# Altium schematic symbol library pwr_reg.SchLib: 53 symbols
Pins are listed as number, name and electrical type; pins without a type are passive.

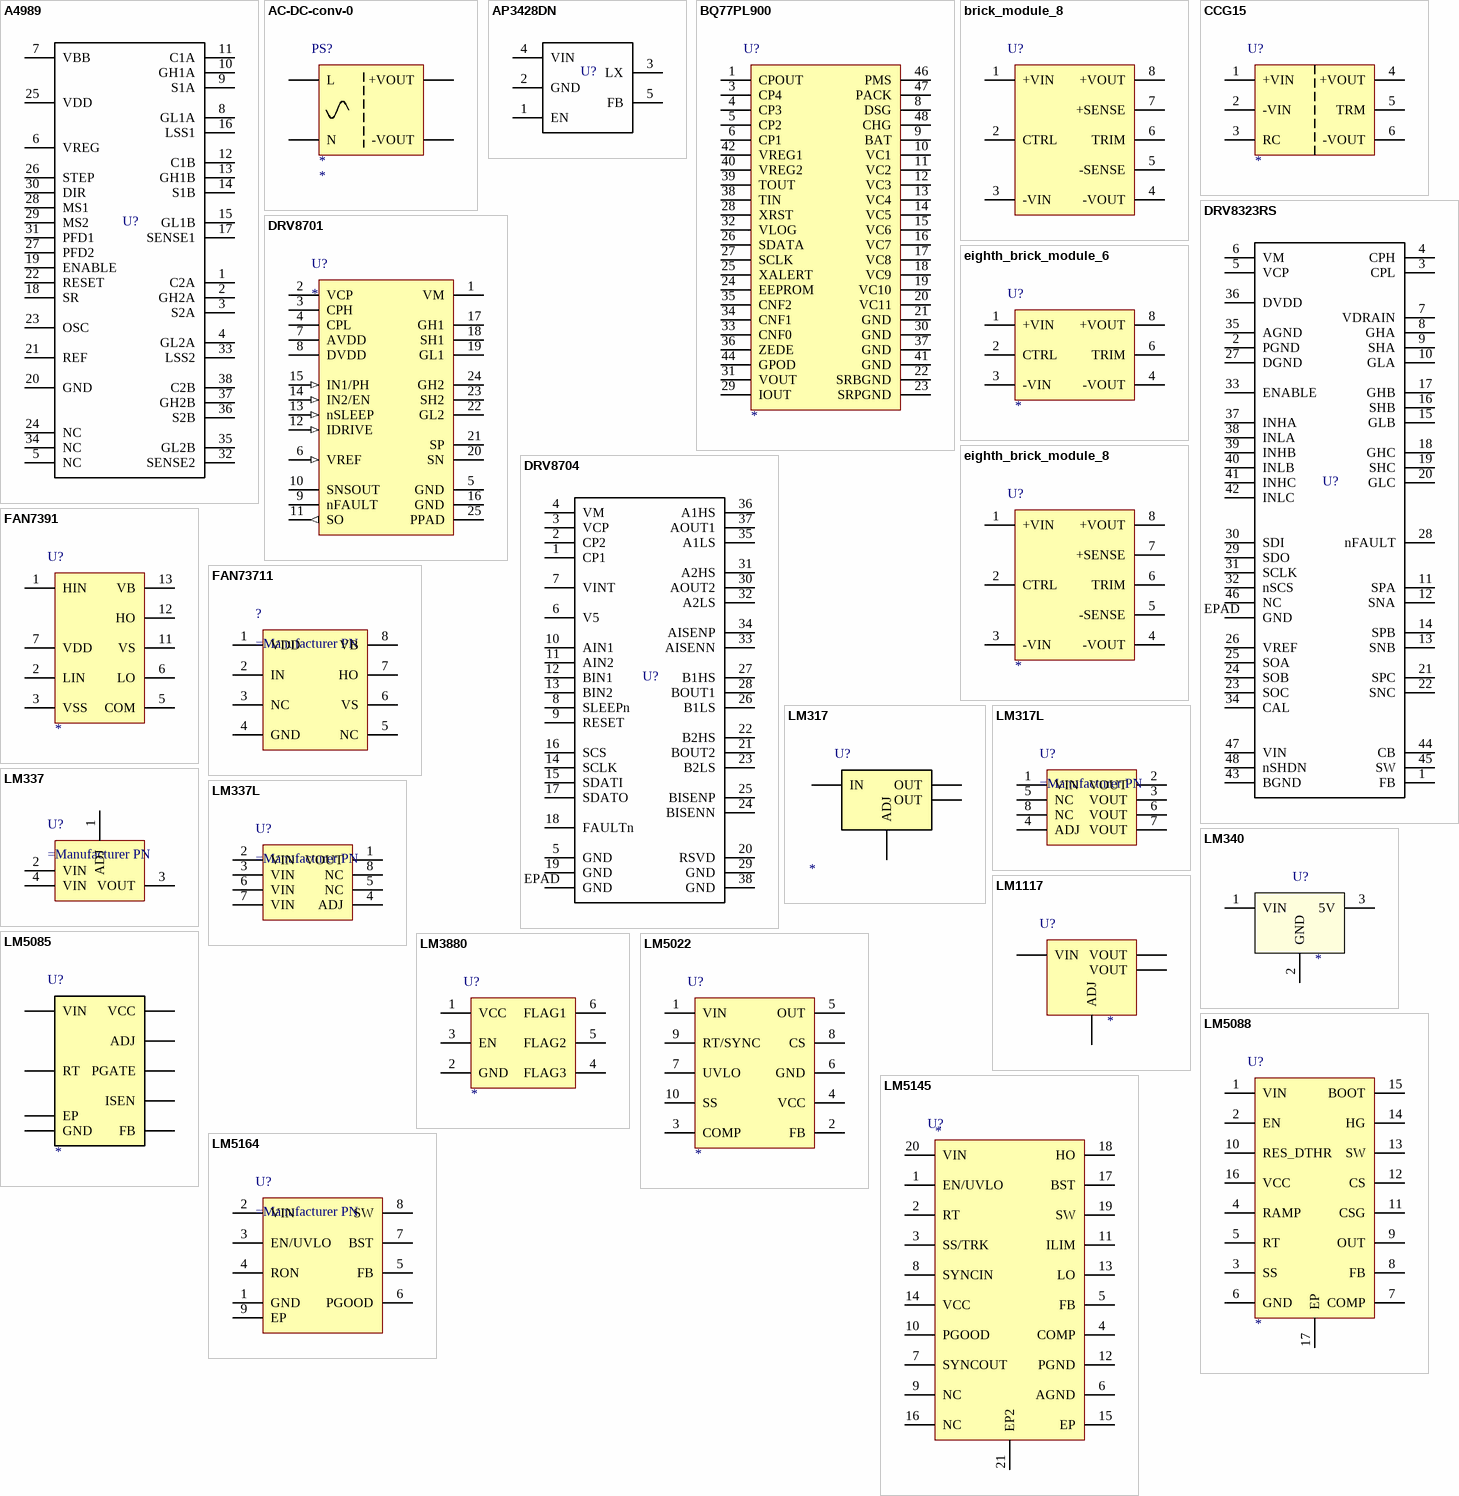
[diagram p0: symbols A4989 to LM5164]

## A4989
designator U?  (value not drawn)
Stepper Driver, A4989
pins: 1 C2A, 2 GH2A, 3 S2A, 4 GL2A, 5 NC, 6 VREG, 7 VBB, 8 GL1A, 9 S1A, 10 GH1A, 11 C1A, 12 C1B, 13 GH1B, 14 S1B, 15 GL1B, 16 LSS1, 17 SENSE1, 18 SR, 19 ENABLE, 20 GND, 21 REF, 22 RESET, 23 OSC, 24 NC, 25 VDD, 26 STEP, 27 PFD2, 28 MS1, 29 MS2, 30 DIR, 31 PFD1, 32 SENSE2, 33 LSS2, 34 NC, 35 GL2B, 36 S2B, 37 GH2B, 38 C2B

## AC-DC-conv-0
designator PS?
AC/DC Converter; Voltage Range Out: *; Manufacturer PN: *
pins: 1 N, 2 L, 3 +VOUT, 4 -VOUT

## AP3428DN
designator U?  (value not drawn)
REG, SW Buck Adj, 1A, 1.5MHz
footprint u-dfn2020-6
pins: 1 EN, 2 GND, 3 LX, 4 VIN, 5 FB

## BQ77PL900
designator U?
5-10 cell Li-Ion Battery Manager; Manufacturer PN: *
pins: 1 CPOUT, 2 NC hidden, 3 CP4, 4 CP3, 5 CP2, 6 CP1, 7 NC hidden, 8 DSG, 9 BAT, 10 VC1, 11 VC2, 12 VC3, 13 VC4, 14 VC5, 15 VC6, 16 VC7, 17 VC8, 18 VC9, 19 VC10, 20 VC11, 21 GND, 22 SRBGND, 23 SRPGND, 24 EEPROM, 25 XALERT, 26 SDATA, 27 SCLK, 28 XRST, 29 IOUT, 30 GND, 31 VOUT, 32 VLOG, 33 CNF0, 34 CNF1, 35 CNF2, 36 ZEDE, 37 GND, 38 TIN, 39 TOUT, 40 VREG2, 41 GND, 42 VREG1, 43 NC hidden, 44 GPOD, 45 NC hidden, 46 PMS, 47 PACK, 48 CHG

## brick_module_8
designator U?  (value not drawn)
Eighth-Brick Power Module, 8-pin; Manufacturer PN: *
pins: 1 +VIN, 2 CTRL, 3 -VIN, 4 -VOUT, 5 -SENSE, 6 TRIM, 7 +SENSE, 8 +VOUT

## CCG15
designator U?
Isolated DC/DC converter module, TDK-Lambda CCG15 series; Manufacturer PN: *
pins: 1 +VIN, 2 -VIN, 3 RC, 4 +VOUT (power), 5 TRM, 6 -VOUT (power)

## DRV8323RS
designator U?  (value not drawn)
BLDC Gate Driver, DRV8323RS
pins: 1 FB, 2 PGND, 3 CPL, 4 CPH, 5 VCP, 6 VM, 7 VDRAIN, 8 GHA, 9 SHA, 10 GLA, 11 SPA, 12 SNA, 13 SNB, 14 SPB, 15 GLB, 16 SHB, 17 GHB, 18 GHC, 19 SHC, 20 GLC, 21 SPC, 22 SNC, 23 SOC, 24 SOB, 25 SOA, 26 VREF, 27 DGND, 28 nFAULT, 29 SDO, 30 SDI, 31 SCLK, 32 nSCS, 33 ENABLE, 34 CAL, 35 AGND, 36 DVDD, 37 INHA, 38 INLA, 39 INHB, 40 INLB, 41 INHC, 42 INLC, 43 BGND, 44 CB, 45 SW, 46 NC, 47 VIN, 48 nSHDN, EPAD GND

## DRV8701
designator U?
BDC H-bridge driver; Manufacturer PN: *
pins: 1 VM (power), 2 VCP, 3 CPH, 4 CPL, 5 GND (power), 6 VREF (in), 7 AVDD (power), 8 DVDD (power), 9 nFAULT (oc), 10 SNSOUT (oc), 11 SO (out), 12 IDRIVE (in), 13 nSLEEP (in), 14 IN2/EN (in), 15 IN1/PH (in), 16 GND (power), 17 GH1, 18 SH1, 19 GL1, 20 SN, 21 SP, 22 GL2, 23 SH2, 24 GH2, 25 PPAD (power)

## DRV8704
designator U?  (value not drawn)
Dual BDC Driver, DRV8704
pins: 1 CP1, 2 CP2, 3 VCP, 4 VM, 5 GND, 6 V5, 7 VINT, 8 SLEEPn, 9 RESET, 10 AIN1, 11 AIN2, 12 BIN1, 13 BIN2, 14 SCLK, 15 SDATI, 16 SCS, 17 SDATO, 18 FAULTn, 19 GND, 20 RSVD, 21 BOUT2, 22 B2HS, 23 B2LS, 24 BISENN, 25 BISENP, 26 B1LS, 27 B1HS, 28 BOUT1, 29 GND, 30 AOUT2, 31 A2HS, 32 A2LS, 33 AISENN, 34 AISENP, 35 A1LS, 36 A1HS, 37 AOUT1, 38 GND, EPAD GND

## eighth_brick_module_6
designator U?
Eighth-Brick Power Module, 6-pin; Manufacturer PN: *
pins: 1 +VIN, 2 CTRL, 3 -VIN, 4 -VOUT, 6 TRIM, 8 +VOUT

## eighth_brick_module_8
designator U?
Eighth-Brick Power Module, 8-pin; Manufacturer PN: *
pins: 1 +VIN, 2 CTRL, 3 -VIN, 4 -VOUT, 5 -SENSE, 6 TRIM, 7 +SENSE, 8 +VOUT

## FAN7391
designator U?
High-Current, High & Low Side, Gate-Drive IC; Manufacturer PN: *
pins: 1 HIN, 2 LIN, 3 VSS, 4 NC hidden, 5 COM, 6 LO, 7 VDD, 8 NC hidden, 9 NC hidden, 10 NC hidden, 11 VS, 12 HO, 13 VB, 14 NC hidden

## FAN73711
designator ?
High Side Gate Driver
pins: 1 VDD, 2 IN, 3 NC, 4 GND, 5 NC, 6 VS, 7 HO, 8 VB

## LM317
designator U?
Lin Reg, Adj. output voltage, 1.5A; Manufacturer PN: *
footprint D2PAK-4_0
pins: 1 ADJ, 2 OUT, 3 IN, 4 OUT

## LM317L
designator U?
Linear Regulator, 8-pin Package
pins: 1 VIN, 2 VOUT, 3 VOUT, 4 ADJ, 5 NC, 6 VOUT, 7 VOUT, 8 NC

## LM337
designator U?
Negative Linear Regulator
pins: 1 ADJ, 2 VIN, 3 VOUT, 4 VIN

## LM337L
designator U?
Negative Linear Regulator 8-pin package
pins: 1 VOUT, 2 VIN, 3 VIN, 4 ADJ, 5 NC, 6 VIN, 7 VIN, 8 NC

## LM340
designator U?  (value not drawn)
Linear Regulator, 5V, 1.5A output; Manufacturer PN: *
footprint SOT-223-4
pins: 1 VIN, 2 GND, 3 5V

## LM1117
designator U?
Linear Regulator; Manufacturer PN: *
pins: 1 ADJ, 2 VOUT, 3 VIN, 4 VOUT

## LM3880
designator U?
Three-Rail Simple Power Sequencer; Manufacturer PN: *
pins: 1 VCC, 2 GND, 3 EN, 4 FLAG3, 5 FLAG2, 6 FLAG1

## LM5022
designator U?
Switching Boost Controller, LM5022; Manufacturer PN: *
pins: 1 VIN, 2 FB, 3 COMP, 4 VCC, 5 OUT, 6 GND, 7 UVLO, 8 CS, 9 RT/SYNC, 10 SS

## LM5085
designator U?
REG, SW Buck Controller, LM5085; Manufacturer PN: *
footprint MSPOP-8-PAD_0 (TSOP, 8-Leads, Body 3.00x3.00mm, Pitch 0.65mm, Thermal Pad 1.73x1.85mm, IPC Medium Density)
pins: 1 ADJ, 2 RT, 3 FB, 4 GND, 5 ISEN, 6 PGATE, 7 VCC, 8 VIN, 9 EP

## LM5088
designator U?
REG, SW Buck Controller, LM5088; Manufacturer PN: *
pins: 1 VIN, 2 EN, 3 SS, 4 RAMP, 5 RT, 6 GND, 7 COMP, 8 FB, 9 OUT, 10 RES_DTHR, 11 CSG, 12 CS, 13 SW, 14 HG, 15 BOOT, 16 VCC, 17 EP

## LM5145
designator U?
REG, SW Buck Converter; Manufacturer PN: *
pins: 1 EN/UVLO, 2 RT, 3 SS/TRK, 4 COMP, 5 FB, 6 AGND, 7 SYNCOUT, 8 SYNCIN, 9 NC, 10 PGOOD, 11 ILIM, 12 PGND, 13 LO, 14 VCC, 15 EP, 16 NC, 17 BST, 18 HO, 19 SW, 20 VIN, 21 EP2

## LM5164
designator U?
SW Sychronous Buck Conv.
pins: 1 GND (power), 2 VIN (power), 3 EN/UVLO, 4 RON, 5 FB, 6 PGOOD, 7 BST, 8 SW, 9 EP (power)

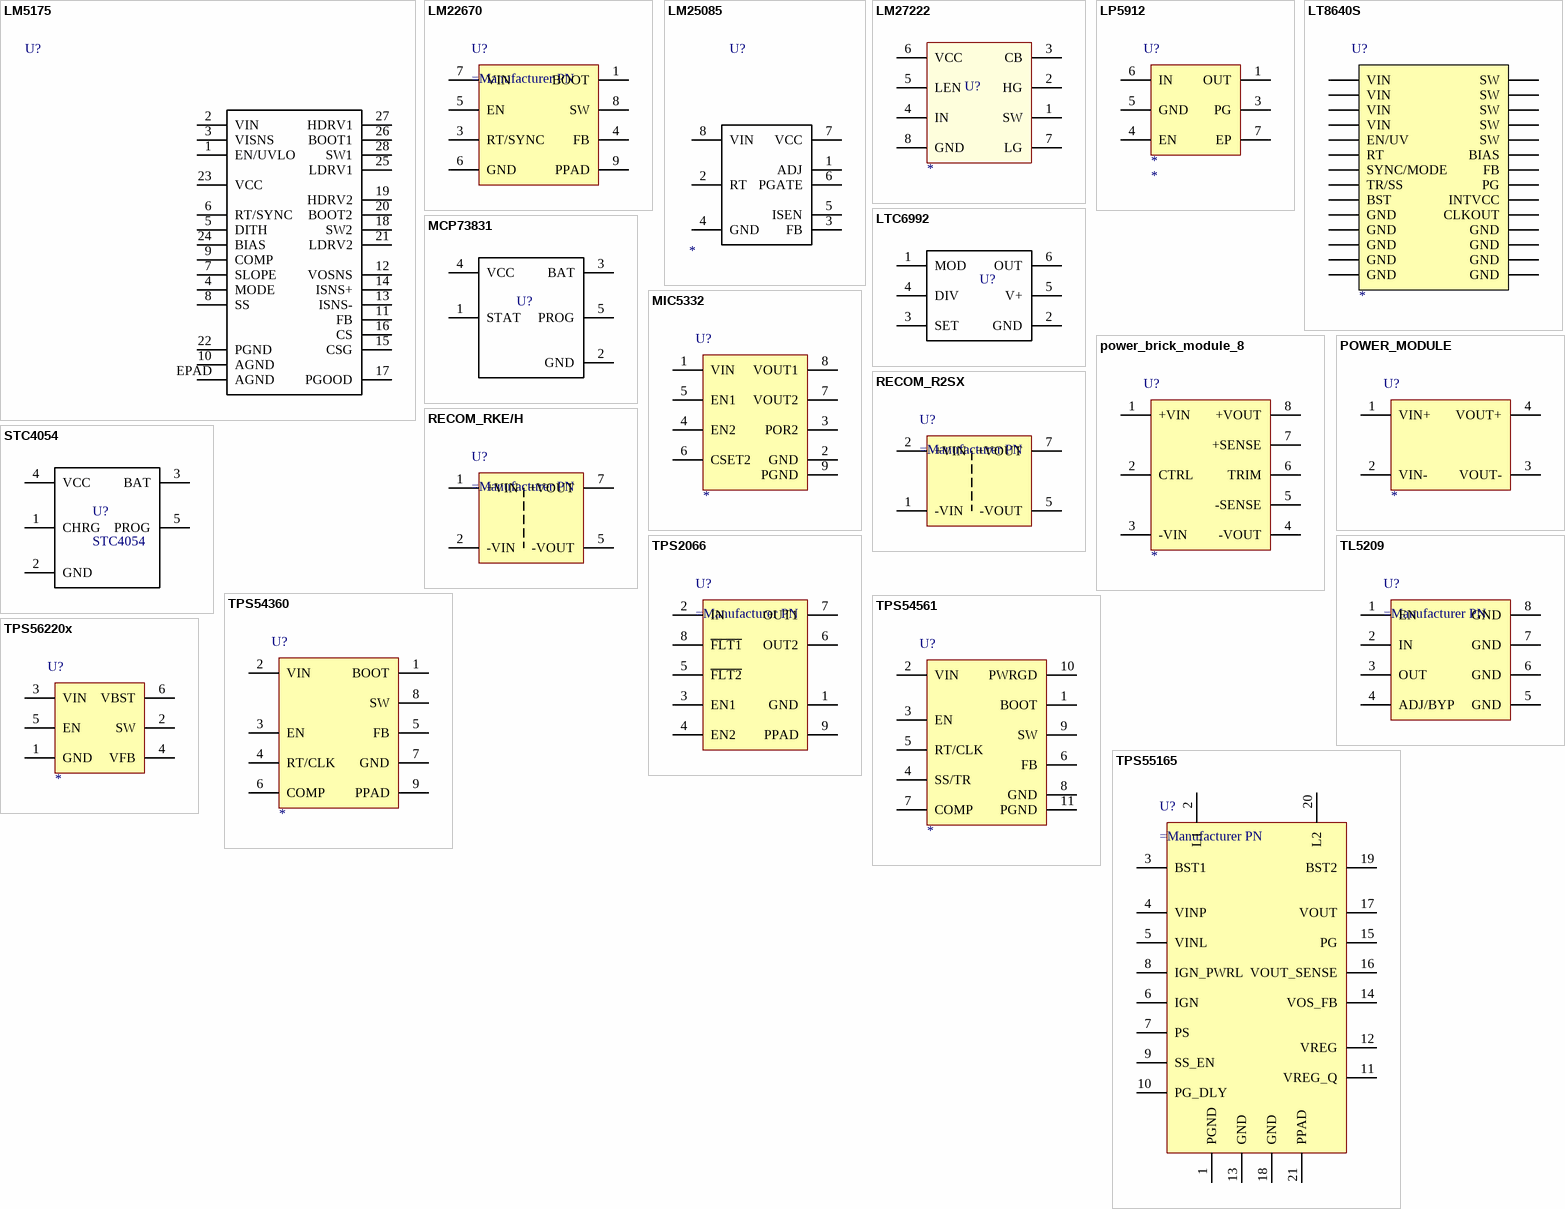
[diagram p1: symbols LM5175 to TPS56220x]

## LM5175
designator U?  (value not drawn)
Buck-Boost Controller, High Eff., LM5175
footprint tssop-28_0 (28-HTSSOP)
pins: 1 EN/UVLO, 2 VIN, 3 VISNS, 4 MODE, 5 DITH, 6 RT/SYNC, 7 SLOPE, 8 SS, 9 COMP, 10 AGND, 11 FB, 12 VOSNS, 13 ISNS-, 14 ISNS+, 15 CSG, 16 CS, 17 PGOOD, 18 SW2, 19 HDRV2, 20 BOOT2, 21 LDRV2, 22 PGND, 23 VCC, 24 BIAS, 25 LDRV1, 26 BOOT1, 27 HDRV1, 28 SW1, EPAD AGND

## LM22670
designator U?
Buck Reg Simple Switcher
pins: 1 BOOT, 2 NC hidden, 3 RT/SYNC, 4 FB, 5 EN, 6 GND, 7 VIN, 8 SW, 9 PPAD

## LM25085
designator U?
Buck Controller, 42V Input, Adj, LM25085; Manufacturer PN: *
pins: 1 ADJ, 2 RT, 3 FB, 4 GND, 5 ISEN, 6 PGATE, 7 VCC, 8 VIN

## LM27222
designator U?
Gate Driver, 5A, Half-Bridge, 406.85V, LM27222; Manufacturer PN: *
footprint so-8 (SO-8 Package)
pins: 1 SW, 2 HG, 3 CB, 4 IN, 5 LEN, 6 VCC, 7 LG, 8 GND

## LP5912
designator U?
500mA Low-Noise, Low-Iq LDO; Voltage Range Out: *; Manufacturer PN: *
pins: 1 OUT, 2 NC hidden, 3 PG, 4 EN, 5 GND, 6 IN, 7 EP

## LT8640S
designator U?
SW Reg, Silent Switcher 2, low EMI; Manufacturer PN: *
footprint LQFN-24_0
pins: 1 BIAS, 2 INTVCC, 3 GND, 3 GND, 4 GND, 5 VIN, 6 VIN, 7 BST, 8 SW, 9 SW, 10 SW, 11 SW, 12 SW, 13 VIN, 14 VIN, 15 GND, 16 GND, 17 EN/UV, 18 RT, 19 CLKOUT, 20 SYNC/MODE, 21 TR/SS, 23 PG, 24 FB, 25 GND, 26 GND, 27 GND, 28 GND

## LTC6992
designator U?  (value not drawn)
pins: 1 MOD, 2 GND, 3 SET, 4 DIV, 5 V+, 6 OUT

## MCP73831
designator U?  (value not drawn)
Single Cell Li-Ion Batt Charger, MCP73831
footprint sot-23-5 (SOT23, 5-Leads, Body 2.90x2.80mm, Pitch 0.95mm, IPC Medium Density)
pins: 1 STAT, 2 GND, 3 BAT, 4 VCC, 5 PROG

## MIC5332
designator U?
Dual 300mA LDO; Manufacturer PN: *
pins: 1 VIN, 2 GND, 3 POR2, 4 EN2, 5 EN1, 6 CSET2, 7 VOUT2, 8 VOUT1, 9 PGND

## power_brick_module_8
designator U?
Power Brick Module, 8-pin; Manufacturer PN: *
pins: 1 +VIN, 2 CTRL, 3 -VIN, 4 -VOUT, 5 -SENSE, 6 TRIM, 7 +SENSE, 8 +VOUT

## POWER_MODULE
designator U?
Generic Power Supply Module; Manufacturer PN: *
pins: 1 VIN+, 2 VIN-, 3 VOUT-, 4 VOUT+

## RECOM_R2SX
designator U?
Recom Isolated Power Module
pins: 1 -VIN, 2 +VIN, 4 NC hidden, 5 -VOUT, 7 +VOUT, 10 NC hidden

## RECOM_RKE/H
designator U?
Recom Isolated Power Module
pins: 1 +VIN, 2 -VIN, 4 NC hidden, 5 -VOUT, 7 +VOUT, 10 NC hidden

## STC4054
designator U?
Batt Charger, Li-Ion 800mA, TSOT23-5L, STC4054
footprint sot-23-5 (SOT23, 5-Leads, Body 2.90x2.80mm, Pitch 0.95mm, IPC Medium Density)
pins: 1 CHRG, 2 GND, 3 BAT, 4 VCC, 5 PROG

## TL5209
designator U?
LDO Linear Reg.
pins: 1 EN, 2 IN, 3 OUT, 4 ADJ/BYP, 5 GND, 6 GND, 7 GND, 8 GND

## TPS2066
designator U?
Power Switch
pins: 1 GND, 2 IN, 3 EN1, 4 EN2, 5 ~{FLT2}, 6 OUT2, 7 OUT1, 8 ~{FLT1}, 9 PPAD

## TPS54360
designator U?
SW REG, Buck, 4.5V to 60V; Manufacturer PN: *
pins: 1 BOOT, 2 VIN, 3 EN, 4 RT/CLK, 5 FB, 6 COMP, 7 GND, 8 SW, 9 PPAD

## TPS54561
designator U?
DC-DC Buck Regulator; Manufacturer PN: *
pins: 1 BOOT, 2 VIN, 3 EN, 4 SS/TR, 5 RT/CLK, 6 FB, 7 COMP, 8 GND, 9 SW, 10 PWRGD, 11 PGND

## TPS55165
designator U?
Synchronous Buck Boost
pins: 1 PGND, 2 L1, 3 BST1, 4 VINP, 5 VINL, 6 IGN, 7 PS, 8 IGN_PWRL, 9 SS_EN, 10 PG_DLY, 11 VREG_Q, 12 VREG, 13 GND, 14 VOS_FB, 15 PG, 16 VOUT_SENSE, 17 VOUT, 18 GND, 19 BST2, 20 L2, 21 PPAD

## TPS56220x
designator U?
Synchronous Step-Down Voltage Regulator; Manufacturer PN: *
pins: 1 GND, 2 SW, 3 VIN, 4 VFB, 5 EN, 6 VBST

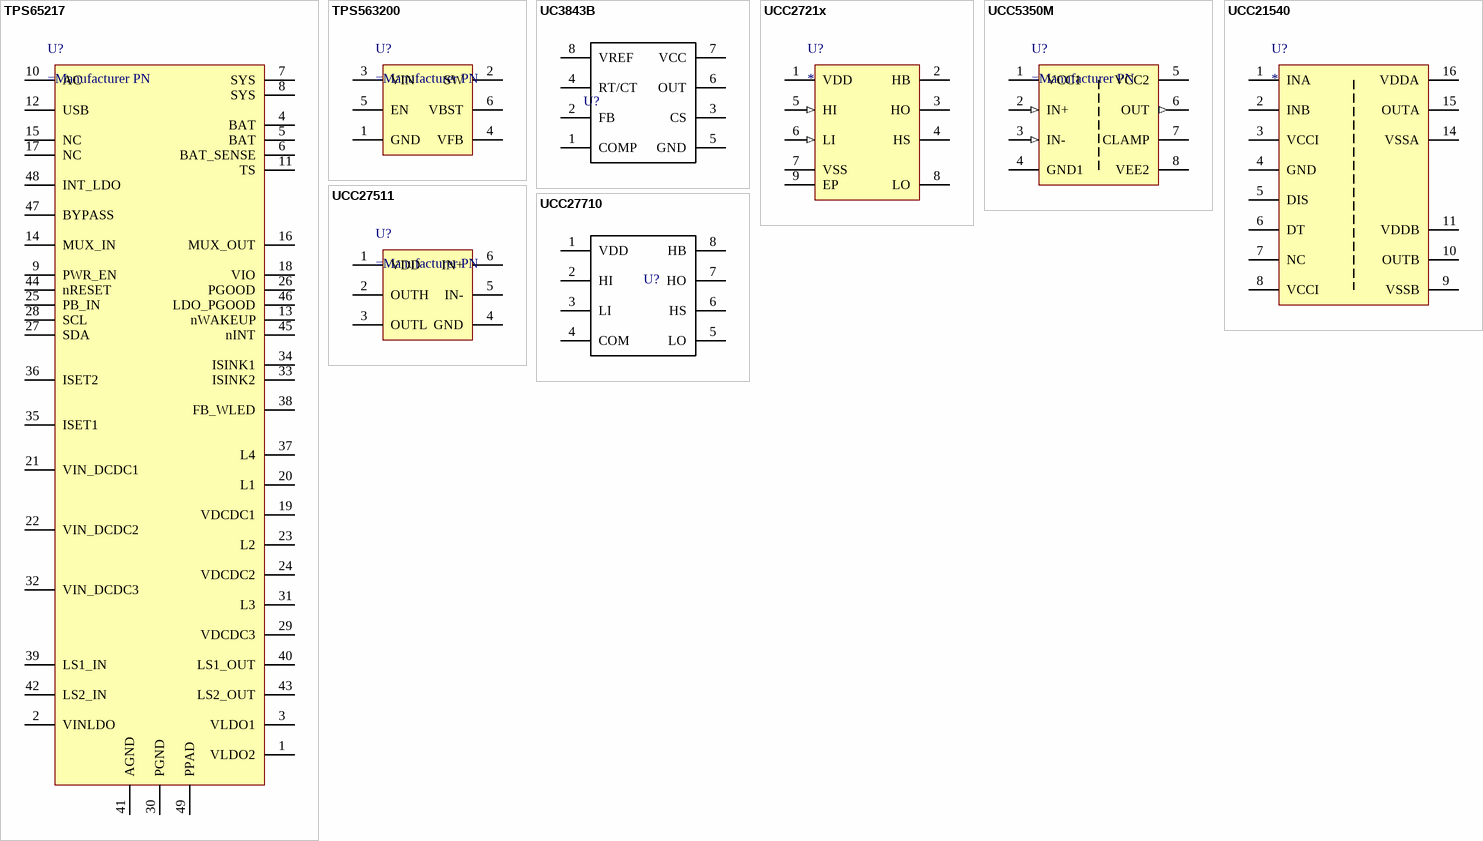
[diagram p2: symbols TPS65217 to UCC27710]

## TPS65217
designator U?
PMIC for AM335x Sitara
pins: 1 VLDO2, 2 VINLDO, 3 VLDO1, 4 BAT, 5 BAT, 6 BAT_SENSE, 7 SYS, 8 SYS, 9 PWR_EN, 10 AC, 11 TS, 12 USB, 13 nWAKEUP, 14 MUX_IN, 15 NC, 16 MUX_OUT, 17 NC, 18 VIO, 19 VDCDC1, 20 L1, 21 VIN_DCDC1, 22 VIN_DCDC2, 23 L2, 24 VDCDC2, 25 PB_IN, 26 PGOOD, 27 SDA, 28 SCL, 29 VDCDC3, 30 PGND, 31 L3, 32 VIN_DCDC3, 33 ISINK2, 34 ISINK1, 35 ISET1, 36 ISET2, 37 L4, 38 FB_WLED, 39 LS1_IN, 40 LS1_OUT, 41 AGND, 42 LS2_IN, 43 LS2_OUT, 44 nRESET, 45 nINT, 46 LDO_PGOOD, 47 BYPASS, 48 INT_LDO, 49 PPAD

## TPS563200
designator U?
Synchronous Buck Reg
pins: 1 GND, 2 SW, 3 VIN, 4 VFB, 5 EN, 6 VBST

## UC3843B
designator U?  (value not drawn)
REG, SW Flyback Adj, UC3843B
footprint so-8 (SO-8 Package)
pins: 1 COMP, 2 FB, 3 CS, 4 RT/CT, 5 GND, 6 OUT, 7 VCC, 8 VREF

## UCC2721x
designator U?
Gate Driver, High and Low side, 8-Pin w/ EP Pad; Manufacturer PN: *
pins: 1 VDD (power), 2 HB, 3 HO, 4 HS, 5 HI (in), 6 LI (in), 7 VSS (power), 8 LO, 9 EP (power)

## UCC5350M
designator U?
Isolated Gate Driver
pins: 1 VCC1 (power), 2 IN+ (in), 3 IN- (in), 4 GND1 (power), 5 VCC2 (power), 6 OUT (out), 7 CLAMP, 8 VEE2

## UCC21540
designator U?
Isolated Gate Driver; Manufacturer PN: *
pins: 1 INA (power), 2 INB (power), 3 VCCI (power), 4 GND (power), 5 DIS (power), 6 DT (power), 7 NC (power), 8 VCCI (power), 9 VSSB (power), 10 OUTB (power), 11 VDDB (power), 14 VSSA (power), 15 OUTA (power), 16 VDDA (power)

## UCC27511
designator U?
Single Channel High-Speed Low-Side Gate Driver
pins: 1 VDD, 2 OUTH, 3 OUTL, 4 GND, 5 IN-, 6 IN+

## UCC27710
designator U?  (value not drawn)
pins: 1 VDD, 2 HI, 3 LI, 4 COM, 5 LO, 6 HS, 7 HO, 8 HB